# EAGLE library part THAT2252 (library THAT 2252 RMS DETECTOR)
THAT Corporation 2252-RMS Detector SIP-8 Created by: Omar from AudioSquare.com
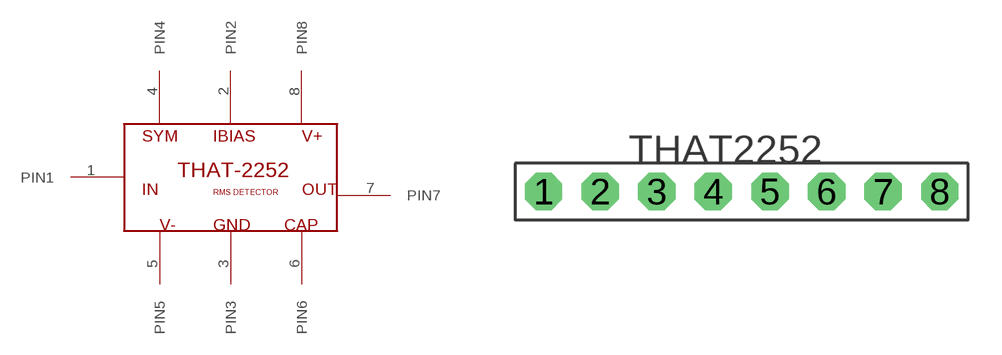
[diagram p0: symbol with the pads of SIP8; footprint SIP8]

Designator prefix -

## THAT2252  [SIP8]
1  PIN1
2  PIN2
3  PIN3
4  PIN4
5  PIN5
6  PIN6
7  PIN7
8  PIN8

## Footprint SIP8 (pad centres in mm)
THAT Corporation 2252 RMS Detector 8 pin Single Inline Package Created by: Omar from AudioSquare.com
drill 0.8 pad 1.676 octagon: 1 -8.89,0; 2 -6.35,0; 3 -3.81,0; 4 -1.27,0; 5 1.27,0; 6 3.81,0; 7 6.35,0; 8 8.89,0